# Altium footprint library LoRaMESH_Radioenge.PcbLib: 1 footprints
Each footprint in its own frame and in the unit in brackets; x right, y up, seen from the top. Pads: shape width x height; smd on the part's side, far side on the other; paste and mask are expansions set on the pad; w line width, h text height; cw(c..) or ccw(c..) is an arc to the next point about the centre after c.
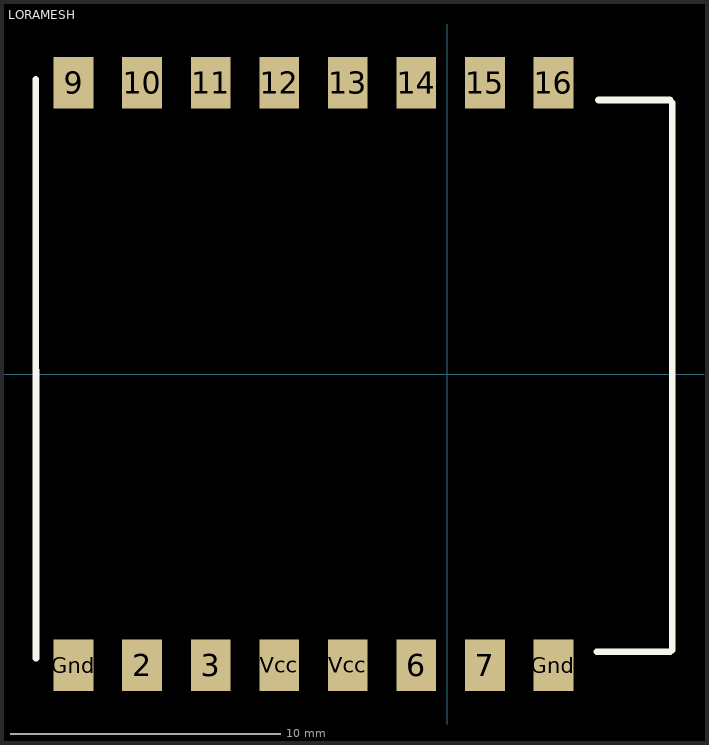
[diagram p0: the footprint, top view; thin cyan lines are the x and y axes]

## LORAMESH [mil] "Kit LoraMesh"
height 196.85
pads (16):
  rect 58x75 smd: 2(-445,-425) 3(-345,-425) 6(-45,-425) 7(55,-425) 9(-545,425) 10(-445,425) 11(-345,425) 12(-245,425) 13(-145,425) 14(-45,425) 15(55,425) 16(155,425) Gnd(-545,-425) Gnd(155,-425) Vcc(-245,-425) Vcc(-145,-425)
Top Overlay:
  lines w10: -600.07,429.85 -599.84,-414.68 ; 218.43,-405.1 325,-405.1 ; 220.4,399.58 325,399.58 ; 328.14,-402.34 328.14,395.57